# EAGLE library part AT32UC3C264C (library AT32UC3C264C)
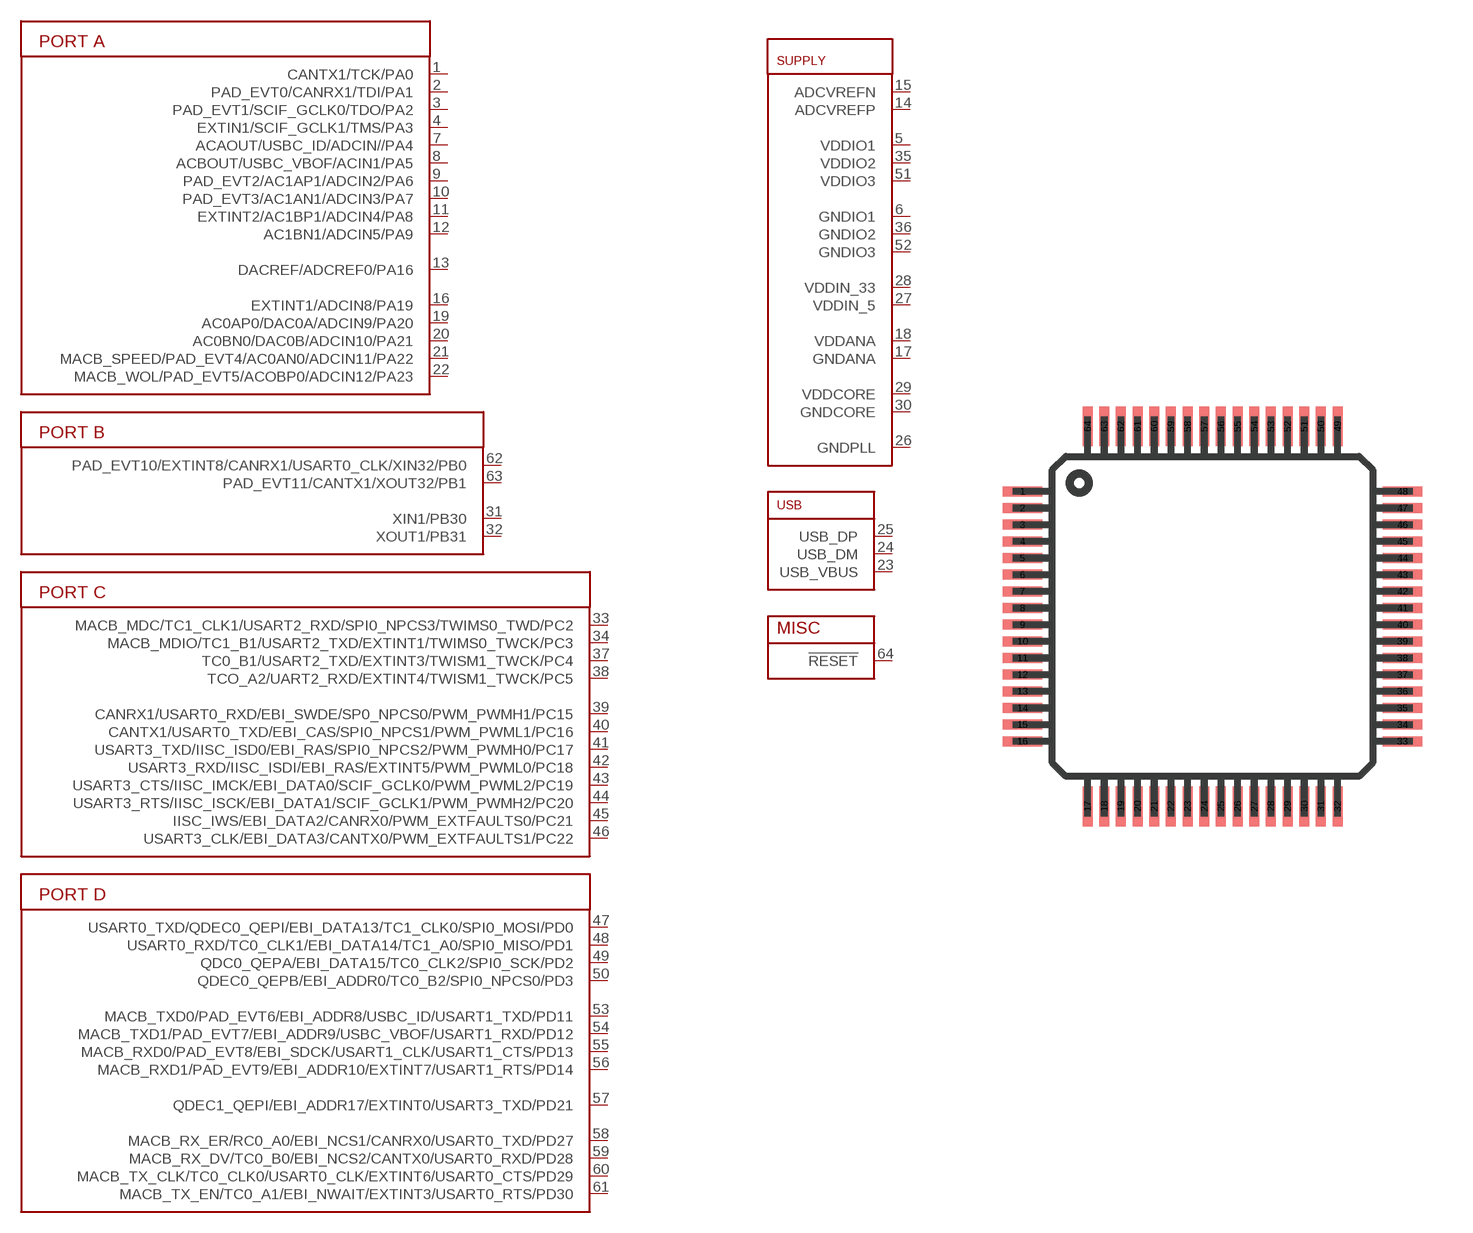
[diagram p0: symbol with the pads of TQFP64-0.5MM; footprint TQFP64-0.5MM]

Designator prefix IC; gates G$2=AT32UC3C264C_MISC G$4=AT32UC3C264C_PORTA G$5=AT32UC3C264C_PORTB G$6=AT32UC3C264C_PORTC G$7=AT32UC3C264C_PORTD G$8=AT32UC3C264C_USB G$9=AT32UC3C264C_SUPPLY

## AT32UC3C264C0.5MM  [TQFP64-0.5MM]
1  G$4:CANTX1/TCK/PA0
2  G$4:PAD_EVT0/CANRX1/TDI/PA1
3  G$4:PAD_EVT1/SCIF_GCLK0/TDO/PA2
4  G$4:EXTIN1/SCIF_GCLK1/TMS/PA3
5  G$9:VDDIO1
6  G$9:GNDIO1
7  G$4:ACAOUT/USBC_ID/ADCIN//PA4
8  G$4:ACBOUT/USBC_VBOF/ACIN1/PA5
9  G$4:PAD_EVT2/AC1AP1/ADCIN2/PA6
10  G$4:PAD_EVT3/AC1AN1/ADCIN3/PA7
11  G$4:EXTINT2/AC1BP1/ADCIN4/PA8
12  G$4:AC1BN1/ADCIN5/PA9
13  G$4:DACREF/ADCREF0/PA16
14  G$9:ADCVREFP
15  G$9:ADCVREFN
16  G$4:EXTINT1/ADCIN8/PA19
17  G$9:GNDANA
18  G$9:VDDANA
19  G$4:AC0AP0/DAC0A/ADCIN9/PA20
20  G$4:AC0BN0/DAC0B/ADCIN10/PA21
21  G$4:MACB_SPEED/PAD_EVT4/AC0AN0/ADCIN11/PA22
22  G$4:MACB_WOL/PAD_EVT5/ACOBP0/ADCIN12/PA23
23  G$8:USB_VBUS
24  G$8:USB_DM
25  G$8:USB_DP
26  G$9:GNDPLL
27  G$9:VDDIN_5
28  G$9:VDDIN_33
29  G$9:VDDCORE
30  G$9:GNDCORE
31  G$5:XIN1/PB30
32  G$5:XOUT1/PB31
33  G$6:MACB_MDC/TC1_CLK1/USART2_RXD/SPI0_NPCS3/TWIMS0_TWD/PC2
34  G$6:MACB_MDIO/TC1_B1/USART2_TXD/EXTINT1/TWIMS0_TWCK/PC3
35  G$9:VDDIO2
36  G$9:GNDIO2
37  G$6:TC0_B1/USART2_TXD/EXTINT3/TWISM1_TWCK/PC4
38  G$6:TCO_A2/UART2_RXD/EXTINT4/TWISM1_TWCK/PC5
39  G$6:CANRX1/USART0_RXD/EBI_SWDE/SP0_NPCS0/PWM_PWMH1/PC15
40  G$6:CANTX1/USART0_TXD/EBI_CAS/SPI0_NPCS1/PWM_PWML1/PC16
41  G$6:USART3_TXD/IISC_ISD0/EBI_RAS/SPI0_NPCS2/PWM_PWMH0/PC17
42  G$6:USART3_RXD/IISC_ISDI/EBI_RAS/EXTINT5/PWM_PWML0/PC18
43  G$6:USART3_CTS/IISC_IMCK/EBI_DATA0/SCIF_GCLK0/PWM_PWML2/PC19
44  G$6:USART3_RTS/IISC_ISCK/EBI_DATA1/SCIF_GCLK1/PWM_PWMH2/PC20
45  G$6:IISC_IWS/EBI_DATA2/CANRX0/PWM_EXTFAULTS0/PC21
46  G$6:USART3_CLK/EBI_DATA3/CANTX0/PWM_EXTFAULTS1/PC22
47  G$7:USART0_TXD/QDEC0_QEPI/EBI_DATA13/TC1_CLK0/SPI0_MOSI/PD0
48  G$7:USART0_RXD/TC0_CLK1/EBI_DATA14/TC1_A0/SPI0_MISO/PD1
49  G$7:QDC0_QEPA/EBI_DATA15/TC0_CLK2/SPI0_SCK/PD2
50  G$7:QDEC0_QEPB/EBI_ADDR0/TC0_B2/SPI0_NPCS0/PD3
51  G$9:VDDIO3
52  G$9:GNDIO3
53  G$7:MACB_TXD0/PAD_EVT6/EBI_ADDR8/USBC_ID/USART1_TXD/PD11
54  G$7:MACB_TXD1/PAD_EVT7/EBI_ADDR9/USBC_VBOF/USART1_RXD/PD12
55  G$7:MACB_RXD0/PAD_EVT8/EBI_SDCK/USART1_CLK/USART1_CTS/PD13
56  G$7:MACB_RXD1/PAD_EVT9/EBI_ADDR10/EXTINT7/USART1_RTS/PD14
57  G$7:QDEC1_QEPI/EBI_ADDR17/EXTINT0/USART3_TXD/PD21
58  G$7:MACB_RX_ER/RC0_A0/EBI_NCS1/CANRX0/USART0_TXD/PD27
59  G$7:MACB_RX_DV/TC0_B0/EBI_NCS2/CANTX0/USART0_RXD/PD28
60  G$7:MACB_TX_CLK/TC0_CLK0/USART0_CLK/EXTINT6/USART0_CTS/PD29
61  G$7:MACB_TX_EN/TC0_A1/EBI_NWAIT/EXTINT3/USART0_RTS/PD30
62  G$5:PAD_EVT10/EXTINT8/CANRX1/USART0_CLK/XIN32/PB0
63  G$5:PAD_EVT11/CANTX1/XOUT32/PB1
64  G$2:!RESET

## Footprint TQFP64-0.5MM (pad centres in mm)
smd 1.2 x 0.3: 1 -5.51,3.79; 2 -5.51,3.29; 3 -5.51,2.79; 4 -5.51,2.29; 5 -5.51,1.79; 6 -5.51,1.29; 7 -5.51,0.79; 8 -5.51,0.29; 9 -5.51,-0.21; 10 -5.51,-0.71; 11 -5.51,-1.21; 12 -5.51,-1.71; 13 -5.51,-2.21; 14 -5.51,-2.71; 15 -5.51,-3.21; 16 -5.51,-3.71; 33 5.89,-3.71; 34 5.89,-3.21; 35 5.89,-2.71; 36 5.89,-2.21; 37 5.89,-1.71; 38 5.89,-1.21; 39 5.89,-0.71; 40 5.89,-0.21; 41 5.89,0.29; 42 5.89,0.79; 43 5.89,1.29; 44 5.89,1.79; 45 5.89,2.29; 46 5.89,2.79; 47 5.89,3.29; 48 5.89,3.79
smd 0.3 x 1.2: 17 -3.56,-5.66; 18 -3.06,-5.66; 19 -2.56,-5.66; 20 -2.06,-5.66; 21 -1.56,-5.66; 22 -1.06,-5.66; 23 -0.56,-5.66; 24 -0.06,-5.66; 25 0.44,-5.66; 26 0.94,-5.66; 27 1.44,-5.66; 28 1.94,-5.66; 29 2.44,-5.66; 30 2.94,-5.66; 31 3.44,-5.66; 32 3.94,-5.66; 49 3.94,5.74; 50 3.44,5.74; 51 2.94,5.74; 52 2.44,5.74; 53 1.94,5.74; 54 1.44,5.74; 55 0.94,5.74; 56 0.44,5.74; 57 -0.06,5.74; 58 -0.56,5.74; 59 -1.06,5.74; 60 -1.56,5.74; 61 -2.06,5.74; 62 -2.56,5.74; 63 -3.06,5.74; 64 -3.56,5.74